# Altium schematic symbol library Schlib_Multivibrator.SchLib: 5 symbols
Pins are listed as number, name and electrical type; pins without a type are passive.

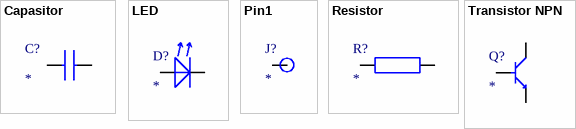
[diagram p0: symbols Capasitor to Transistor NPN]

## Capasitor
designator C?
footprint Capacitor smd 1206 (Chip Capacitor, 2-Leads, Body 3,20x1,60mm, IPC Low Density)
pins: 1, 2

## LED
designator D?
footprint LED smd 1206 (Chip Diode, 2-Leads, Body 3,20x1,60mm, IPC Low Density)
pins: A, C

## Pin1
designator J?
footprint Pin1
pins: 1

## Resistor
designator R?
footprint Resistor smd 1206 (Chip Resistor, 2-Leads, Body 3,20x1,60mm, IPC Low Density)
pins: 1, 2

## Transistor NPN
designator Q?
footprint SOT23 (SOT23, 3-Leads, Body 2,85x3,00mm, Pitch 0,95mm, IPC Low Density)
pins: B, C, E